# Altium schematic symbol library Current Sensor.SchLib: 2 symbols
Pins are listed as number, name and electrical type; pins without a type are passive.

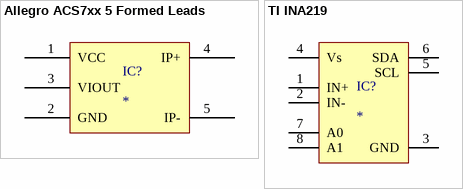
[diagram p0: symbols Allegro ACS7xx 5 Formed Leads to TI INA219]

## Allegro ACS7xx 5 Formed Leads
designator IC?
pins: 1 VCC, 2 GND, 3 VIOUT, 4 IP+, 5 IP-

## TI INA219
designator IC?
pins: 1 IN+, 2 IN-, 3 GND (power), 4 Vs (power), 5 SCL, 6 SDA, 7 A0, 8 A1